# Altium schematic symbol library Resistor.SchLib: 60 symbols (part 1 of 2)
Pins are listed as number, name and electrical type; pins without a type are passive.

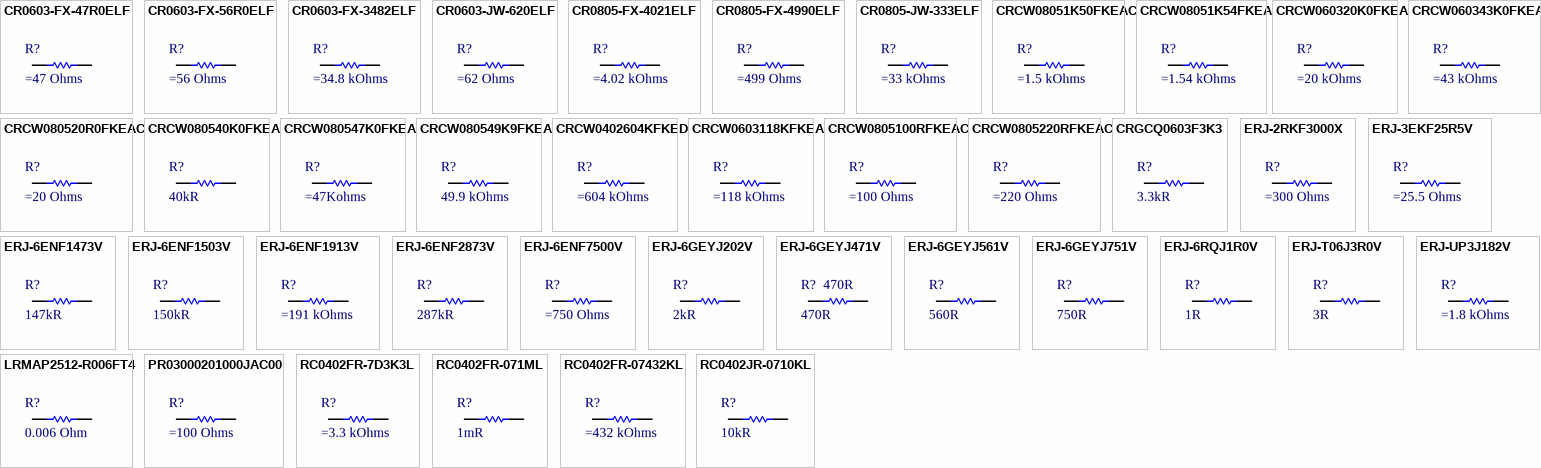
[diagram p0: symbols CR0603-FX-47R0ELF to RC0402JR-0710KL]

## CR0603-FX-47R0ELF
designator R?
RES SMD 47 OHM 1% 1/10W 0603; Manufacturer: Bourns; Part Number: CR0603-FX-47R0ELF; Value: 47 Ohms; Temperature Coefficient: 100 PPM / C; Voltage Rating: 50 V; Supplier 1: Mouser; Category: Thick Film Resistors; Price: 1 = 0.1; 10 = 0.019; 100 = 0.008; 500 = 0.007; 1000 = 0.004; 5000 = 0.002 (USD); Package / Case: 0603; Operating Temperature: - 55 C/ + 155 C; Tolerance: 1 %; Power Rating: 1/10 W; Mouser Link: https://br.mouser.com/ProductDetail/Bourns/CR0603-FX-47R0ELF?qs=0nF2VnfAjXlzDgnPATTkTA%3D%3D; Library Ref: Resistores; Datasheet: https://br.mouser.com/datasheet/2/54/crxxxxx-1858361.pdf; Resistor Type: Thick Film; Size / Dimension: 1.6/0.8 (mm); Supplier Part Number 1: 652-CR0603FX-47R0ELF
pins: 1, 2

## CR0603-FX-56R0ELF
designator R?
RES SMD 56 OHMS 1% 1/10W 0603; Manufacturer: Bourns; Part Number: CR0603-FX-56R0ELF; Value: 56 Ohms; Temperature Coefficient: 100 PPM / C; Voltage Rating: 50 V; Supplier 1: Mouser; Category: Thick Film Resistors - SMD; Price: 1 = 0.1; 10 = 0.019; 100 = 0.011; 500 = 0.01; 1000 = 0.006 (USD); Package / Case: 0603; Operating Temperature: - 55 C/ + 155 C; Tolerance: 1 %; Power Rating: 1/10 W; Mouser Link: https://br.mouser.com/ProductDetail/Bourns/CR0603-FX-56R0ELF?qs=0nF2VnfAjXkVwSNglvrNkw%3D%3D; Library Ref: Resistores; Datasheet: https://br.mouser.com/datasheet/2/54/crxxxxx-1858361.pdf; Resistor Type: Fixo; Size / Dimension: 1.6/0.8 (mm); Supplier Part Number 1: 652-CR0603FX-56R0ELF
pins: 1, 2

## CR0603-FX-3482ELF
designator R?
RES SMD 34.8KOHM 1% 1/10W 0603; Manufacturer: Bourns; Part Number: CR0603-FX-3482ELF; Value: 34.8 kOhms; Temperature Coefficient: 100 PPM / C; Voltage Rating: 50 V; Supplier 1: Mouser; Category: Thick Film Resistors - SMD; Price: 1 = 0.1; 10 = 0.016; 100 = 0.009; 500 = 0.008; 1000 = 0.006 (USD); Package / Case: 0603; Operating Temperature: - 55 C/ + 155 C; Tolerance: 1 %; Power Rating: 1/10 W; Mouser Link: https://br.mouser.com/ProductDetail/Bourns/CR0603-FX-3482ELF?qs=CCIlxZRRv7iML3EEjn8ktw==; Library Ref: Resistores; Datasheet: https://br.mouser.com/datasheet/2/54/crxxxxx-1858361.pdf; Resistor Type: Fixo; Size / Dimension: 1.6/0.8 (mm); Supplier Part Number 1: 652-CR0603FX-3482ELF
pins: 1, 2

## CR0603-JW-620ELF
designator R?
RES SMD 62 OHM 5% 1/10W 0603; Manufacturer: Bourns; Part Number: CR0603-JW-620ELF; Value: 62 Ohms; Temperature Coefficient: 200 PPM / C; Voltage Rating: 50 V; Supplier 1: Mouser; Category: Thick Film Resistors - SMD; Price: 1 = 0.1; 10 = 0.014; 100 = 0.009; 500 = 0.006; 1000 = 0.004 (USD); Package / Case: 0603; Operating Temperature: - 55 C/ + 155 C; Tolerance: 5 %; Power Rating: 1/10 W; Mouser Link: https://br.mouser.com/ProductDetail/Bourns/CR0603-JW-620ELF?qs=fr5M0h%252BG8GYj3p8lbTv0Tg==; Library Ref: Resistores; Datasheet: https://br.mouser.com/datasheet/2/54/crxxxxx-1858361.pdf; Resistor Type: Fixo; Size / Dimension: 1.6/0.8 (mm); Supplier Part Number 1: 652-CR0603-JW-620ELF
pins: 1, 2

## CR0805-FX-4021ELF
designator R?
RES SMD 4.02 K OHM 1% 1/8 W 0805; Manufacturer: Bourns; Part Number: CR0805-FX-4021ELF; Value: 4.02 kOhms; Temperature Coefficient: 100 PPM / C; Power Rating: 1/8 W; Voltage Rating: 150 V; Supplier 1: Mouser; Category: Thick Film Resistors - SMD; Price: 1 = 0.1; 10 = 0.024; 100 = 0.014; 500 = 0.011; 1000 = 0.008 (USD); Package / Case: 0805; Operating Temperature: - 55 C/ + 155 C; Tolerance: 1 %; Mouser Link: https://br.mouser.com/ProductDetail/Bourns/CR0805-FX-4021ELF?qs=TYKCbaKwe1DapcPpjJ90lg%3D%3D; Library Ref: Resistores; Datasheet: https://br.mouser.com/datasheet/2/54/crxxxxx-1858361.pdf; Resistor Type: Fixo; Size / Dimension: 2.0/1.2 (mm); Supplier Part Number 1: 652-CR0805FX-4021ELF
pins: 1, 2

## CR0805-FX-4990ELF
designator R?
RES SMD 499 OHM 1% 1/8W 0805; Manufacturer: Bourns; Part Number: CR0805-FX-4990ELF; Value: 499 Ohms; Temperature Coefficient: 100 PPM / C; Voltage Rating: 150 V; Supplier 1: Mouser; Category: Thick Film Resistors - SMD; Price: 1 = 0.1; 10 = 0.024; 100 = 0.014; 500 = 0.011; 1000 = 0.008 (USD); Package / Case: 0805; Operating Temperature: - 55 C/+ 155 C; Tolerance: 1 %; Power Rating: 1/8 W; Mouser Link: https://br.mouser.com/ProductDetail/Bourns/CR0805-FX-4990ELF?qs=sGAEpiMZZMukHu%252BjC5l7YSNvqakVQFVliZhrfH2%252B8mU%3D; Library Ref: Resistores; Datasheet: https://br.mouser.com/datasheet/2/54/crxxxxx-1858361.pdf; Resistor Type: Thick Film; Size / Dimension: 2.0/1.2 (mm); Supplier Part Number 1: 652-CR0805FX-4990ELF; ComponentLink1URL: https://datasheet.ciiva.com/9119/chpreztr-9119621.pdf?src-supplier=Avnet; ComponentLink1Description: https://datasheet.ciiva.com/9119/chpreztr-9119621.pdf?src-supplier=Avnet; ComponentLink2URL: https://datasheet.ciiva.com/18594/chpreztr-18594794.pdf?src-supplier=Digi-Key; ComponentLink2Description: https://datasheet.ciiva.com/18594/chpreztr-18594794.pdf?src-supplier=Digi-Key; ComponentLink3URL: https://datasheet.ciiva.com/18594/chpreztr-18594795.pdf?src-supplier=Digi-Key; ComponentLink3Description: https://datasheet.ciiva.com/18594/chpreztr-18594795.pdf?src-supplier=Digi-Key; ComponentLink4URL: https://datasheet.ciiva.com/18594/chpreztr-18594796.pdf?src-supplier=Digi-Key; ComponentLink4Description: https://datasheet.ciiva.com/18594/chpreztr-18594796.pdf?src-supplier=Digi-Key; ComponentLink5URL: https://datasheet.ciiva.com/5543/chpreztr-5543368.pdf?src-supplier=Mouser; ComponentLink5Description: https://datasheet.ciiva.com/5543/chpreztr-5543368.pdf?src-supplier=Mouser; ComponentLink6URL: https://datasheet.ciiva.com/16927/chpreztr-16927317.pdf?src-supplier=Avnet+Europe; ComponentLink6Description: https://datasheet.ciiva.com/16927/chpreztr-16927317.pdf?src-supplier=Avnet+Europe
pins: 1, 2

## CR0805-JW-333ELF
designator R?
RES SMD 33K OHM 5% 1/8W 0805; Manufacturer: Bourns; Part Number: CR0805-JW-333ELF; Value: 33 kOhms; Temperature Coefficient: 200 PPM / C; Voltage Rating: 150 V; Supplier 1: Mouser; Category: Thick Film Resistors; Price: 1 = 0.1; 10 = 0.023; 100 = 0.013; 500 = 0.01; 1000 = 0.008 (USD); Package / Case: 0805; Operating Temperature: - 55 C/ + 155 C; Tolerance: 5 %; Power Rating: 1/8 W; Mouser Link: https://br.mouser.com/ProductDetail/Bourns/CR0805-JW-333ELF?qs=%252BcBkmVQIZ2Q1P1gcG8tMAQ%3D%3D; Library Ref: Resistores; Datasheet: https://br.mouser.com/datasheet/2/54/crxxxxx-1858361.pdf; Resistor Type: Fixo; Size / Dimension: 2.0/1.2 (mm); Supplier Part Number 1: 652-CR0805JW-333ELF
pins: 1, 2

## CRCW08051K50FKEAC
designator R?
RES SMD 1.5K OHM 1% 1/8W 0805; Manufacturer: Vishay; Part Number: CRCW08051K50FKEAC; Value: 1.5 kOhms; Temperature Coefficient: 100 PPM / C; Voltage Rating: 150 V; Supplier 1: Mouser; Category: Thick Film Resistors - SMD; Price: 1 = 0.1; 10 = 0.059; 100 = 0.024; 1000 = 0.01 (USD); Package / Case: 0805; Operating Temperature: - 55 C/ + 155 C; Tolerance: 1 %; Power Rating: 1/8 W; Mouser Link: https://br.mouser.com/ProductDetail/Vishay-Dale/CRCW08051K50FKEAC?qs=E3Y5ESvWgWMwo6R2oqPQ9Q%3D%3D; Library Ref: Resistores; Datasheet: https://br.mouser.com/datasheet/2/427/crcwce3-1762584.pdf; Resistor Type: Thick Film; Size / Dimension: 2.0/1.2 (mm); Supplier Part Number 1: 71-CRCW08051K50FKEAC
pins: 1, 2

## CRCW08051K54FKEA
designator R?
RES SMD 1.54K OHM 1% 1/8W 0805; Manufacturer: Vishay; Part Number: CRCW08051K54FKEA; Value: 1.54 kOhms; Temperature Coefficient: 100 PPM / C; Voltage Rating: 150 V; Supplier 1: Mouser; Category: Thick Film Resistors - SMD; Price: 1 = 0.1; 10 = 0.051; 100 = 0.022; 1000 = 0.009 (USB); Package / Case: 0805; Operating Temperature: - 55 C/ + 155 C; Tolerance: 1 %; Power Rating: 1/8 W; Mouser Link: https://br.mouser.com/ProductDetail/Vishay-Dale/CRCW08051K54FKEA?qs=1CkV0QOCgMpi10m9FUA8%2Fw%3D%3D; Library Ref: Resistores; Datasheet: https://br.mouser.com/datasheet/2/427/dcrcwe3-1762152.pdf; Resistor Type: Fixo; Size / Dimension: 2.0/1.2 (mm); Supplier Part Number 1: 71-CRCW08051K54FKEA
pins: 1, 2

## CRCW060320K0FKEA
designator R?
RES SMD 20K OHM 1% 1/10W 0603; Manufacturer: Vishay; Part Number: CRCW060320K0FKEA; Value: 20 kOhms; Temperature Coefficient: 100 PPM / C; Voltage Rating: 75 V; Supplier 1: Mouser; Category: Thick Film Resistors - SMD; Price: 1 = 0.1; 10 = 0.031; 100 = 0.013; 1000 = 0.005 (USD); Package / Case: 0603; Operating Temperature: - 55 C/ + 155 C; Tolerance: 1 %; Power Rating: 1/10 W; Mouser Link: https://br.mouser.com/ProductDetail/Vishay-Dale/CRCW060320K0FKEA?qs=QZuYiDxzHajCQLs7n6RwKw%3D%3D; Library Ref: Resistores; Datasheet: https://br.mouser.com/datasheet/2/427/dcrcwe3-1762152.pdf; Resistor Type: Fixo; Size / Dimension: 1.6/0.8 (mm); Supplier Part Number 1: 71-CRCW0603-20K-E3
pins: 1, 2

## CRCW060343K0FKEAC
designator R?
RES SMD 43K OHM 1% 1/10W 0603; Manufacturer: Vishay; Part Number: CRCW060343K0FKEAC; Value: 43 kOhms; Temperature Coefficient: 100 PPM / C; Voltage Rating: 75 V; Supplier 1: Mouser; Category: Thick Film Resistors - SMD; Price: 1 = 0.16; 10 = 0.061; 100 = 0.035; 500 = 0.033; 1000 = 0.024 (USD); Package / Case: 0603; Operating Temperature: - 55 C/ + 155 C; Tolerance: 1 %; Power Rating: 1/10 W; Mouser Link: https://br.mouser.com/ProductDetail/Vishay-Dale/CRCW060343K0FKEAC?qs=E3Y5ESvWgWO%252BJlD7L0HNPQ%3D%3D; Library Ref: Resistores; Datasheet: https://br.mouser.com/datasheet/2/427/crcwce3-1762584.pdf; Resistor Type: Fixo; Size / Dimension: 1.6/0.8 (mm); Supplier Part Number 1: 71-CRCW060343K0FKEAC
pins: 1, 2

## CRCW080520R0FKEAC
designator R?
RES SMD 20 OHM 1% 1/8W 005; Manufacturer: Vishay; Part Number: CRCW080520R0FKEAC; Value: 20 Ohms; Temperature Coefficient: 100 PPM / C; Voltage Rating: 150 V; Supplier 1: Mouser; Category: Thick Film Resistors - SMD; Price: 1 = 0.1; 10 = 0.059; 100 = 0.024; 1000 = 0.01 (USD); Package / Case: 0805; Operating Temperature: - 55 C/ + 155 C; Tolerance: 1 %; Power Rating: 1/8 W; Mouser Link: https://br.mouser.com/ProductDetail/Vishay-Dale/CRCW080520R0FKEAC?qs=E3Y5ESvWgWMLQrkmx3wlWA%3D%3D; Library Ref: Resistores; Datasheet: https://br.mouser.com/datasheet/2/427/crcwce3-1762584.pdf; Resistor Type: Fixo; Size / Dimension: 2.0/1.2 (mm); Supplier Part Number 1: 71-CRCW080520R0FKEAC
pins: 1, 2

## CRCW080540K0FKEA
designator R?, comment 40kR
RES SMD 40K OHM 1% 1/8W 0805; Manufacturer: Vishay / Dale; Part Number: CRCW080540K0FKEA; Temperature Coefficient: 100 PPM / C; Power Rating: 125 mW (1/8 W); Voltage Rating: 150 V; Library Control - Checked Footprint: No; Library Control - Person that did the Last Update Footprint: Dalarme; Supplier 1: Mouser; Category: Thick Film Resistors - SMD; Price: 1=0,10, 10=0,057, 100=0,024 (USD); Package / Case: 0805 (2012 Metric); Operating Temperature: - 55ºC ~ 155ºC; Value: 40kR; Tolerance: 1 %; Mouser Link: https://br.mouser.com/ProductDetail/Vishay-Dale/CRCW080540K0FKEA?qs=%2Fha2pyFadui6t5gBae62obH1we%2FwEWYF0IgPJkUjG77TW2yL4eZJ9lty8AWRnjVo; Library Ref: Resistor; Datasheet: https://br.mouser.com/datasheet/2/427/dcrcwe3-1762152.pdf; Resistor Type: Chip Resistor; Size / Dimension: 2 mm L x  1.25 mm W x  0.45 mm H; Supplier Part Number 1: 71-CRCW080540K0FKEA; Library Control - Checked Schematic: No; Library Control - Last Update: 10/06/21 12:00; Library Control - Person that did the Last Update Schematic: Dalarme
pins: 1, 2

## CRCW080547K0FKEA
designator R?
RES SMD 47KOHMS 1% 1/8W 0805; Manufacturer: Vishay; Part Number: CRCW080547K0FKEA; Temperature Coefficient: 100 PPM / C; Voltage Rating: 150 V; Supplier 1: Mouser; Category: Thick Film Resistors - SMD; Price: 1 = 0.1; 10 = 0.057; 100 = 0.024; 1000 = 0.009 (USD); Package / Case: 0805; Operating Temperature: - 55 C /+ 155 C; Value: 47 kOhms; Tolerance: 1 %; Power Rating: 1/8 W; Mouser Link: https://br.mouser.com/ProductDetail/Vishay-Dale/CRCW080547K0FKEA?qs=sGAEpiMZZMu61qfTUdNhG2DpbjADlD3GmUgUonkEHPY%3D; Library Ref: Resistores; Datasheet: https://br.mouser.com/datasheet/2/427/dcrcwe3-1762152.pdf; Resistor Type: Thick Film; Size / Dimension: 2.0/1.2 (mm); Supplier Part Number 1: 71-CRCW0805-47K-E3; ComponentLink1URL: https://datasheet.ciiva.com/11809/0900766b80d98b26-11809181.pdf?src-supplier=RSComponents; ComponentLink1Description: https://datasheet.ciiva.com/11809/0900766b80d98b26-11809181.pdf?src-supplier=RSComponents; ComponentLink2URL: https://datasheet.ciiva.com/9006/dcrcwe3-9006477.pdf?src-supplier=Avnet; ComponentLink2Description: https://datasheet.ciiva.com/9006/dcrcwe3-9006477.pdf?src-supplier=Avnet; ComponentLink3URL: https://datasheet.ciiva.com/2514/dcrcwe3-2514311.pdf?src-supplier=Digi-Key; ComponentLink3Description: https://datasheet.ciiva.com/2514/dcrcwe3-2514311.pdf?src-supplier=Digi-Key; ComponentLink4URL: https://datasheet.ciiva.com/2514/dcrcwe3-2514312.pdf?src-supplier=Digi-Key; ComponentLink4Description: https://datasheet.ciiva.com/2514/dcrcwe3-2514312.pdf?src-supplier=Digi-Key; ComponentLink5URL: https://datasheet.ciiva.com/26314/fld-crcw-e3-data-en-26314584.pdf?src-supplier=Distrelec; ComponentLink5Description: https://datasheet.ciiva.com/26314/fld-crcw-e3-data-en-26314584.pdf?src-supplier=Distrelec; ComponentLink6URL: https://datasheet.ciiva.com/16204/dcrcwe3-16204264.pdf?src-supplier=Future+Electronics; ComponentLink6Description: https://datasheet.ciiva.com/16204/dcrcwe3-16204264.pdf?src-supplier=Future+Electronics; ComponentLink7URL: https://datasheet.ciiva.com/16723/70201119-16723909.pdf?src-supplier=Allied+Electronics; ComponentLink7Description: https://datasheet.ciiva.com/16723/70201119-16723909.pdf?src-supplier=Allied+Electronics; ComponentLink8URL: https://datasheet.ciiva.com/7777/1697337-7777406.pdf?src-supplier=Element14; ComponentLink8Description: https://datasheet.ciiva.com/7777/1697337-7777406.pdf?src-supplier=Element14; ComponentLink9URL: https://datasheet.ciiva.com/7777/1720486-7777577.pdf?src-supplier=Element14; ComponentLink9Description: https://datasheet.ciiva.com/7777/1720486-7777577.pdf?src-supplier=Element14; ComponentLink10URL: https://datasheet.ciiva.com/17178/dcrcwe3-17178445.pdf?src-supplier=Avnet+Europe; ComponentLink10Description: https://datasheet.ciiva.com/17178/dcrcwe3-17178445.pdf?src-supplier=Avnet+Europe
pins: 1, 2

## CRCW080549K9FKEA
designator R?, comment 49.9 kOhms
RES SMD 49.9K OHM 1% 1/8W 0805; Manufacturer: Vishay; Part Number: CRCW080549K9FKEA; Temperature Coefficient: 100 PPM / C; Voltage Rating: 150 V; Supplier 1: Mouser; Category: Thick Film Resistors - SMD; Price: 1 = 0.1; 10 = 0.057; 100 = 0.024; 1000 = 0.009 (USD); Package / Case: 0805; Operating Temperature: - 55 C/ + 155 C; Value: 49.9 kOhms; Tolerance: 1 %; Power Rating: 1/8 W; Mouser Link: https://br.mouser.com/ProductDetail/Vishay-Dale/CRCW080549K9FKEA?qs=kkyyugUlSrM78XYIvV9NZQ%3D%3D; Library Ref: Resistores; Datasheet: https://br.mouser.com/datasheet/2/427/dcrcwe3-1762152.pdf; Resistor Type: Fixo; Size / Dimension: 2.0/0.8 (mm); Supplier Part Number 1: 71-CRCW0805-49.9K-E3
pins: 1, 2

## CRCW0402604KFKED
designator R?
RES SMD 604K OHM 1% 1/16W 0402; Manufacturer: Vishay; Part Number: CRCW0402604KFKED; Value: 604 kOhms; Temperature Coefficient: 100 PPM / C; Voltage Rating: 50 V; Supplier 1: Mouser; Category: Thick Film Resistors - SMD; Price: 1 = 0.1; 10 = 0.033; 100 = 0.014; 1000 = 0.006 (USD); Package / Case: 0402; Operating Temperature: - 55 C/ + 155 C; Tolerance: 1 %; Power Rating: 1/16 W; Mouser Link: https://br.mouser.com/ProductDetail/Vishay-Dale/CRCW0402604KFKED?qs=DKbL89i6OEpzv5ZGRZfINw%3D%3D; Library Ref: Resistores; Datasheet: https://br.mouser.com/datasheet/2/427/dcrcwe3-1762152.pdf; Resistor Type: Fixo; Size / Dimension: 1.0/0.5 (mm); Supplier Part Number 1: 71-CRCW0402-604K-E3
pins: 1, 2

## CRCW0603118KFKEA
designator R?
RES SMD 118K OHM 1% 1/10W 0603; Manufacturer: Vishay; Part Number: CRCW0603118KFKEA; Value: 118 kOhms; Temperature Coefficient: 100 PPM / C; Voltage Rating: 75 V; Supplier 1: Mouser; Category: Thick Film Resistors - SMD; Price: 1 = 0.1; 10 = 0.031; 100 = 0.013; 1000 = 0.007 (USD); Package / Case: 0603; Operating Temperature: - 55 C/ + 155 C; Tolerance: 1 %; Power Rating: 1/10 W; Mouser Link: https://br.mouser.com/ProductDetail/Vishay-Dale/CRCW0603118KFKEA/?qs=nXJh77ZNlsm3NRUJdWnJqw%3D%3D; Library Ref: Resistores; Datasheet: https://br.mouser.com/datasheet/2/427/dcrcwe3-1762152.pdf; Resistor Type: Fixo; Size / Dimension: 1.6/0.8 (mm); Supplier Part Number 1: 71-CRCW0603-118K-E3
pins: 1, 2

## CRCW0805100RFKEAC
designator R?
RES SMD 100 OHM 1% 1/8W 0805; Manufacturer: Vishay; Part Number: CRCW0805100RFKEAC; Value: 100 Ohms; Temperature Coefficient: 100 PPM / C; Voltage Rating: 150 V; Supplier 1: Mouser; Category: Thick Film Resistors; Price: 1 = 0.1; 10 = 0.059; 100 = 0.024; 1000 = 0.01 (USD); Package / Case: 0805; Operating Temperature: - 55 C /+ 155 C; Tolerance: 1 %; Power Rating: 1/8 W; Mouser Link: https://br.mouser.com/ProductDetail/Vishay-Dale/CRCW0805100RFKEAC?qs=E3Y5ESvWgWM6LN%2Fsc41QGg%3D%3D; Library Ref: Resistores; Datasheet: https://br.mouser.com/datasheet/2/427/crcwce3-1762584.pdf; Resistor Type: Thick Film; Size / Dimension: 2.0/1.2 (mm); Supplier Part Number 1: 71-CRCW0805100RFKEAC; ComponentLink1URL: http://www.vishay.com/docs/28773/crcwce3.pdf?src-supplier=Digi-Key; ComponentLink1Description: http://www.vishay.com/docs/28773/crcwce3.pdf?src-supplier=Digi-Key; ComponentLink2URL: http://www.vishay.com/docs/20035/dcrcwe3.pdf?src-supplier=Avnet+Asia; ComponentLink2Description: http://www.vishay.com/docs/20035/dcrcwe3.pdf?src-supplier=Avnet+Asia
pins: 1, 2

## CRCW0805220RFKEAC
designator R?
RES SMD 220 OHM 1% 1/10W 0603; Manufacturer: Vishay; Part Number: CRCW0805220RFKEAC; Value: 220 Ohms; Temperature Coefficient: 100 PPM / C; Power Rating: 1/8 W; Voltage Rating: 150 V; Supplier 1: Mouser; Category: Thick Film Resistors - SMD; Price: 1 = 0.1; 10 = 0.059; 100 = 0.024; 1000 = 0.01 (USD); Package / Case: 0805; Operating Temperature: - 55 C/ + 155 C; Tolerance: 1 %; Mouser Link: https://br.mouser.com/ProductDetail/Vishay-Dale/CRCW0805220RFKEAC?qs=%2Fha2pyFadui6t5gBae62oVC8Jw3KURWiTijmJtzJ%2FwZHA3XMX06wmwYXzj5PSsTm; Library Ref: Resistores; Datasheet: https://br.mouser.com/datasheet/2/427/crcwce3-1762584.pdf; Resistor Type: Thick Film; Size / Dimension: 2.0/1.2 (mm); Supplier Part Number 1: 71-CRCW0805220RFKEAC
pins: 1, 2

## CRGCQ0603F3K3
designator R?, comment 3.3kR
RES SMD 3.3K OHM 1% 1/10W 0603; Manufacturer: TE Connectivity / Holsworthy; Part Number: CRGCQ0603F3K3; Temperature Coefficient: 100 PPM / C; Power Rating: 100 mW (1/10 W); Voltage Rating: 75 V; Library Control - Checked Footprint: No; Library Control - Person that did the Last Update Footprint: Dalarme; Supplier 1: Mouser; Category: Thick Film Resistors; Price: 1=0,10, 10=0,029, 100=0,011 (USD); Package / Case: 0603 (1608 Metric); Operating Temperature: - 55ºC ~ 125ºC; Value: 3.3kR; Tolerance: 1 %; Mouser Link: https://br.mouser.com/ProductDetail/TE-Connectivity-Holsworthy/CRGCQ0603F3K3?qs=sGAEpiMZZMvdGkrng054t7z4BkURc4Lz7mzhBruKq8fwVJ16OlxZFQ%3D%3D; Library Ref: Resistor; Datasheet: https://br.mouser.com/datasheet/2/418/4/NG_DS_1773204-3_1-1358553.pdf; Resistor Type: Thick Film Resistors; Size / Dimension: 1.6 mm L x  0.8 mm W x  0.45 mm H; Supplier Part Number 1: 279-CRGCQ0603F3K3; Library Control - Checked Schematic: No; Library Control - Last Update: 10/06/21 12:00; Library Control - Person that did the Last Update Schematic: Dalarme
pins: 1, 2

## ERJ-2RKF3000X
designator R?
RES SMD 300 OHM 1% 1/10W 0402; Manufacturer: Panasonic; Part Number: ERJ-2RKF3000X; Value: 300 Ohms; Temperature Coefficient: 100 PPM / C; Voltage Rating: 50 V; Supplier 1: Mouser; Category: Thick Film Resistors - SMD; Price: 1 = 0.1; 10 = 0.022; 100 = 0.09; 1000 = 0.005; 2500 = 0.003 (USD); Package / Case: 0402; Operating Temperature: - 55 C/ + 155 C; Tolerance: 1 %; Power Rating: 1/10 W; Mouser Link: https://br.mouser.com/ProductDetail/Panasonic/ERJ-2RKF3000X?qs=YMBIwoNQYdXXslVZpfxx%2Fw%3D%3D; Library Ref: Resistores; Datasheet: https://br.mouser.com/datasheet/2/315/AOA0000C304-1149620.pdf; Resistor Type: Thick Film Resistors; Size / Dimension: 1.0/0.5 (mm); Supplier Part Number 1: 667-ERJ-2RKF3000X
pins: 1, 2

## ERJ-3EKF25R5V
designator R?
RES SMD 25.5 OHM 1% 1/10W 0603; Manufacturer: Panasonic; Part Number: ERJ-3EKF25R5V; Value: 25.5 Ohms; Temperature Coefficient: 100 PPM / C; Voltage Rating: 75 V; Supplier 1: Mouser; Category: Thick Film Resistors - SMD; Price: 1 = 0.1; 10 = 0.032; 100 = 0.013; 1000 = 0.005 (USD); Package / Case: 0603; Operating Temperature: - 55 C/ + 155 C; Tolerance: 1 %; Power Rating: 1/10 W; Mouser Link: https://br.mouser.com/ProductDetail/Panasonic/ERJ-3EKF25R5V?qs=iBwFsHVUAOfMQYWcKXnGtA%3D%3D; Library Ref: Resistores; Datasheet: https://br.mouser.com/datasheet/2/315/AOA0000C304-1149620.pdf; Resistor Type: Fixo; Size / Dimension: 1.6/0.8 (mm); Supplier Part Number 1: 667-ERJ-3EKF25R5V
pins: 1, 2

## ERJ-6ENF1473V
designator R?, comment 147kR
RES SMD 147K OHM 1% 1/8W 0805; Manufacturer: ERJ-6ENF1473V; Part Number: Panasonic; Temperature Coefficient: 100 PPM / C; Power Rating: 125 mW (1/8 W); Voltage Rating: 150 V; Library Control - Checked Footprint: No; Library Control - Person that did the Last Update Footprint: Dalarme; Supplier 1: Mouser; Category: Thick Film Resistors - SMD; Price: 1=0,10, 10=0,081, 100=0,031 (USD); Package / Case: 0805 (2012 Metric); Operating Temperature: - 55ºC ~ 155ºC; Value: 147kR; Tolerance: 1 %; Mouser Link: https://www.mouser.com/ProductDetail/Panasonic/ERJ-6ENF1473V?qs=%2Fha2pyFadujWqMGonbcVXWwXMYaIuq5GHKqLFAIP2xNGjmqSEc%252BekQ%3D%3D; Library Ref: Resistor; Datasheet: https://www.mouser.com/datasheet/2/315/AOA0000C304-1149620.pdf; Resistor Type: Thick Film Resistors SMD; Size / Dimension: 2 mm L x  1.25 mm W x  0.6 mm H; Supplier Part Number 1: 667-ERJ-6ENF1473V; Library Control - Checked Schematic: No; Library Control - Last Update: 10/06/21 12:00; Library Control - Person that did the Last Update Schematic: Dalarme
pins: 1, 2

## ERJ-6ENF1503V
designator R?, comment 150kR
RES SMD 150K OHM 1% 1/8W 0805; Manufacturer: Panasonic; Part Number: ERJ-6ENF1503V; Temperature Coefficient: 100 PPM / C; Power Rating: 125 mW (1/8 W); Voltage Rating: 150 V; Library Control - Checked Footprint: No; Library Control - Person that did the Last Update Footprint: Dalarme; Supplier 1: Mouser; Category: Thick Film Resistors - SMD; Price: 1=0,10, 10=0,072, 100=0,028 (USD); Package / Case: 0805 (2012 Metric); Operating Temperature: - 55ºC ~ 155ºC; Value: 150kR; Tolerance: 1 %; Mouser Link: https://www.mouser.com/ProductDetail/Panasonic/ERJ-6ENF1503V?qs=%2Fha2pyFadujWqMGonbcVXZ4ilSYTCtvzmps6OSFpSb8bGFothQhspw%3D%3D; Library Ref: Resistor; Datasheet: https://www.mouser.com/datasheet/2/315/AOA0000C304-1149620.pdf; Resistor Type: Thick Film Resistors; Size / Dimension: 2 mm L x  1.2 mm W x  0.6 mm H; Supplier Part Number 1: 667-ERJ-6ENF1503V; Library Control - Checked Schematic: No; Library Control - Last Update: 10/06/21 12:00; Library Control - Person that did the Last Update Schematic: Dalarme
pins: 1, 2

## ERJ-6ENF1913V
designator R?
RES SMD 191K OHM 1% 1/8W 0805; Manufacturer: Panasonic; Part Number: ERJ-6ENF1913V; Value: 191 kOhms; Temperature Coefficient: 100 PPM / C; Voltage Rating: 150 V; Supplier 1: Mouser; Category: Thick Film Resistors - SMD; Price: 1 = 0.1; 10 = 0.081; 100 = 0.031; 1000 = 0.011 (USD); Package / Case: 0805; Operating Temperature: - 55 C/ + 155 C; Tolerance: 1 %; Power Rating: 1/8 W; Mouser Link: https://br.mouser.com/ProductDetail/Panasonic/ERJ-6ENF1913V?qs=JjxTDIFmKPT26nwOK%2FF6sA%3D%3D; Library Ref: Resistores; Datasheet: https://br.mouser.com/datasheet/2/315/AOA0000C304-1149620.pdf; Resistor Type: Fixo; Size / Dimension: 2.0/1.2 (mm); Supplier Part Number 1: 667-ERJ-6ENF1913V
pins: 1, 2

## ERJ-6ENF2873V
designator R?, comment 287kR
RES SMD 287K OHM 1% 1/8W 0805; Manufacturer: Panasonic; Part Number: ERJ-6ENF2873V; Temperature Coefficient: 100 PPM / C; Power Rating: 125 mW (1/8 W); Voltage Rating: 150 V; Library Control - Checked Footprint: No; Library Control - Person that did the Last Update Footprint: Dalarme; Supplier 1: Mouser; Category: Thick Film Resistors - SMD; Price: 1=0,10, 10=0,081, 100=0,031 (USD); Package / Case: 0805 (2012 Metric); Operating Temperature: - 55ºC ~ 155ºC; Value: 287kR; Tolerance: 1 %; Mouser Link: https://www.mouser.com/ProductDetail/Panasonic/ERJ-6ENF2873V?qs=%2Fha2pyFadujWqMGonbcVXXc0zZsdSP1dZYYcRXEsXZFr4GNb89oOKQ%3D%3D; Library Ref: Resistor; Datasheet: https://www.mouser.com/datasheet/2/315/AOA0000C304-1149620.pdf; Resistor Type: Thick Film Resistors; Size / Dimension: 2 mm L x  1.2 mm W x  0.6 mm H; Supplier Part Number 1: 667-ERJ-6ENF2873V; Library Control - Checked Schematic: No; Library Control - Last Update: 10/06/21 12:00; Library Control - Person that did the Last Update Schematic: Dalarme
pins: 1, 2

## ERJ-6ENF7500V
designator R?
RES SMD 750 OHM 1% 1/8W 0805; Manufacturer: Panasonic; Part Number: ERJ-6ENF7500V; Value: 750 Ohms; Temperature Coefficient: 100 PPM / C; Voltage Rating: 150 V; Supplier 1: Mouser; Category: Thick Film Resistors - SMD; Price: 1 = 0.11; 10 = 0.061; 100 = 0.031; 1000 = 0.013 (mm); Package / Case: 0805; Operating Temperature: - 55 C/ + 155 C; Tolerance: 1 %; Power Rating: 1/8 W; Mouser Link: https://br.mouser.com/ProductDetail/Panasonic/ERJ-6ENF7500V?qs=8%252BG0TiN%2FgVpxq6ZxI%2FoLGg%3D%3D; Library Ref: Resistores; Datasheet: https://br.mouser.com/datasheet/2/315/AOA0000C304-1149620.pdf; Resistor Type: Fixo; Size / Dimension: 2.0/1.2 (mm); Supplier Part Number 1: 667-ERJ-6ENF7500V
pins: 1, 2

## ERJ-6GEYJ202V
designator R?, comment 2kR
RES SMD 2K OHM 5% 1/8W 0805; Manufacturer: Panasonic; Part Number: ERJ-6GEYJ202V; Temperature Coefficient: 200 PPM / C; Power Rating: 125 mW (1/8 W); Voltage Rating: 150 V; Library Control - Checked Footprint: No; Library Control - Person that did the Last Update Footprint: Dalarme; Supplier 1: Mouser; Category: Thick Film Resistors - SMD; Price: 1=0,10, 10=0,043, 100=0,02 (USD); Package / Case: 0805 (2012 Metric); Operating Temperature: - 55ºC ~ 155ºC; Value: 2kR; Tolerance: 5 %; Mouser Link: https://www.mouser.com/ProductDetail/Panasonic/ERJ-6GEYJ202V?qs=tQNqqtTOejIIQ7OKxiM92w%3D%3D; Library Ref: Resistor; Datasheet: https://www.mouser.com/datasheet/2/315/AOA0000C301-1488782.pdf; Resistor Type: Thick Film Resistors SMD; Size / Dimension: 2 mm L x  1.25 mm W x  0.6 mm H; Supplier Part Number 1: 667-ERJ-6GEYJ202V; Library Control - Checked Schematic: No; Library Control - Last Update: 10/06/21 12:00; Library Control - Person that did the Last Update Schematic: Dalarme
pins: 1, 2

## ERJ-6GEYJ471V
designator R?, comment 470R
RES SMD 470 OHM 5% 1/8W 0805; Manufacturer: Panasonic; Part Number: 667-ERJ-6GEYJ471V; Temperature Coefficient: 200 PPM / C; Power Rating: 125 mW (1/8 W); Voltage Rating: 150 V; Library Control - Checked Footprint: No; Library Control - Person that did the Last Update Footprint: Dalarme; Supplier 1: Mouser; Category: Thick Film Resistors - SMD; Price: 1=0,1000, 10=0,04300, 100=0,02000 (USD); Package / Case: 0805 (2012 Metric); Operating Temperature: - 55ºC ~ 155ºC; Tolerance: 5 %; Mouser Link: https://br.mouser.com/ProductDetail/Panasonic/ERJ-6GEYJ471V?qs=%2Fha2pyFadujWqMGonbcVXQOcxwQBA8OuqUzw3XmrY6vv5LW7wYDrug%3D%3D; Library Ref: Resistor; Datasheet: https://br.mouser.com/datasheet/2/315/AOA0000C301-1488782.pdf; Resistor Type: Thick Film Resistors SMD; Size / Dimension: 2 mm L x  1.25 mm W x  0.6 mm H; Supplier Part Number 1: 667-ERJ-6GEYJ471V; Library Control - Checked Schematic: No; Library Control - Last Update: 10/06/21 12:00; Library Control - Person that did the Last Update Schematic: Dalarme; Value: 470R
pins: 1, 2

## ERJ-6GEYJ561V
designator R?, comment 560R
RES SMD 560 OHM 5% 1/8W 0805; Manufacturer: Panasonic; Part Number: ERJ-6GEYJ561V; Temperature Coefficient: 200 PPM / C; Power Rating: 125 mW (1/8 W); Voltage Rating: 150 V; Library Control - Checked Footprint: No; Library Control - Person that did the Last Update Footprint: Dalarme; Supplier 1: Mouser; Category: Thick Film Resistors - SMD; Price: 1=0,1000, 10=0,0570, 100=0,0240 (USD); Package / Case: 0805 (2012 Metric); Operating Temperature: - 55 ºC ~ 155 ºC; Value: 560R; Tolerance: 5 %; Mouser Link: https://br.mouser.com/ProductDetail/Panasonic/ERJ-6GEYJ561V?qs=%2Fha2pyFadujWqMGonbcVXVSDhMt8ErmxgLQZ2885LZcMb7gQ7yYKdA%3D%3D; Library Ref: Resistor; Datasheet: https://br.mouser.com/datasheet/2/315/AOA0000C301-1488782.pdf; Resistor Type: Thick Film Resistors SMD; Size / Dimension: 2 mm L x  1.25 mm W x  0.6 mm H; Supplier Part Number 1: 667-ERJ-6GEYJ561V; Library Control - Checked Schematic: No; Library Control - Last Update: 10/06/21 12:00; Library Control - Person that did the Last Update Schematic: Dalarme
pins: 1, 2

## ERJ-6GEYJ751V
designator R?, comment 750R
RES SMD 750 OHM 5% 1/8W 0805; Manufacturer: Panasonic; Part Number: ERJ-6GEYJ751V; Temperature Coefficient: 200 PPM / C; Power Rating: 125 mW (1/8 W); Voltage Rating: 150 V; Library Control - Checked Footprint: No; Library Control - Person that did the Last Update Footprint: Dalarme; Supplier 1: Mouser; Category: Thick Film Resistors - SMD; Price: 1=0,10, 10=0,049, 100=0,021 (USD); Package / Case: 0805 (2012 Metric); Operating Temperature: - 55ºC ~ 155ºC; Value: 750R; Tolerance: 5 %; Mouser Link: https://br.mouser.com/ProductDetail/Panasonic/ERJ-6GEYJ751V?qs=sGAEpiMZZMukHu%252BjC5l7YYjpZ9X9PhOCxoCk8Svj5Vk%3D; Library Ref: Resistor; Datasheet: https://br.mouser.com/datasheet/2/315/AOA0000C301-1488782.pdf; Resistor Type: Thick Film Resistors; Size / Dimension: 2 mm L x  1.25 mm W x  0.6 mm H; Supplier Part Number 1: 667-ERJ-6GEYJ751V; Library Control - Checked Schematic: No; Library Control - Last Update: 10/06/21 12:00; Library Control - Person that did the Last Update Schematic: Dalarme
pins: 1, 2

## ERJ-6RQJ1R0V
designator R?, comment 1R
RES SMD 1 OHM 5% 1/8W 0805; Manufacturer: Panasonic; Part Number: ERJ-6RQJ1R0V; Temperature Coefficient: 200 PPM / C; Power Rating: 125 mW (1/8 W); Voltage Rating: 11 V; Library Control - Checked Footprint: No; Library Control - Person that did the Last Update Footprint: Dalarme; Supplier 1: Mouser; Category: Current Sense Resistors - SMD; Price: 1=0,4400, 10=0,17700, 100=0,0880 (USD); Package / Case: 0805 (2012 Metric); Operating Temperature: - 55ºC ~ 125ºC; Value: 1R; Tolerance: 5 %; Mouser Link: https://br.mouser.com/ProductDetail/Panasonic/ERJ-6RQJ1R0V?qs=%2Fha2pyFadujWqMGonbcVXYgrT3JhghtAWM5KVP2vsx%252BYqIFZaqt%2Fzw%3D%3D; Library Ref: Resistor; Datasheet: https://br.mouser.com/datasheet/2/315/AOA0000C313-1141758.pdf; Resistor Type: Current Sense Resistors; Size / Dimension: 2 mm L x  1.2 mm W x  0.6 mm H; Supplier Part Number 1: 667-ERJ-6RQJ1R0V; Library Control - Checked Schematic: No; Library Control - Last Update: 10/06/21 12:00; Library Control - Person that did the Last Update Schematic: Dalarme
pins: 1, 2

## ERJ-T06J3R0V
designator R?, comment 3R
RES SMD 3 OHM 5% 1/4W 0805; Manufacturer: Panasonic; Part Number: ERJ-T06J3R0V; Temperature Coefficient: - 100 PPM / C, + 600 PPM / C; Power Rating: 250 mW (1/4 W); Voltage Rating: 150 V; Library Control - Checked Footprint: No; Library Control - Person that did the Last Update Footprint: Dalarme; Supplier 1: Mouser; Category: Thick Film Resistors - SMD; Price: 1=0,32000, 25=0,13200, 100=0,05500 (USD); Package / Case: 0805 (2012 Metric); Operating Temperature: - 55ºC ~ 155ºC; Value: 3R; Tolerance: 5 %; Mouser Link: https://br.mouser.com/ProductDetail/Panasonic/ERJ-T06J3R0V?qs=iIVTEDlrHA1yFM81e%252BgKUQ==; Library Ref: Resistor; Datasheet: https://br.mouser.com/datasheet/2/315/powerR_erjt_e-1077525.pdf; Resistor Type: Anti-Pulse Resistor; Size / Dimension: 2 mm L x  1.2 mm W x  0.6 mm H; Supplier Part Number 1: 667-ERJ-T06J3R0V; Library Control - Checked Schematic: No; Library Control - Last Update: 10/06/21 12:00; Library Control - Person that did the Last Update Schematic: Dalarme
pins: 1, 2

## ERJ-UP3J182V
designator R?
RES SMD 1.8K OHM 5% 1/4W 0603; Manufacturer: Panasonic; Part Number: ERJ-UP3J182V; Value: 1.8 kOhms; Temperature Coefficient: 100 PPM / C; Voltage Rating: 150 V; Supplier 1: Mouser; Category: Thick Film Resistors - SMD; Price: 1 = 0.18; 10 = 0.15; 100 = 0.058; 1000 = 0.035 (USD); Package / Case: 0603; Operating Temperature: - 55 C/ + 155 C; Tolerance: 5 %; Power Rating: 1/4 W; Mouser Link: https://br.mouser.com/ProductDetail/Panasonic/ERJ-UP3J182V?qs=GedFDFLaBXEdz0KjUYQ0%2FQ%3D%3D; Library Ref: Resistor; Datasheet: https://br.mouser.com/datasheet/2/315/Panasonic_Resistors_Thick_Film_Anti_Sulf_Anti_Surg-1825099.pdf; Resistor Type: Fixo; Size / Dimension: 1.6/0.8 (mm); Supplier Part Number 1: 667-ERJ-UP3J182V
pins: 1, 2

## LRMAP2512-R006FT4
designator R?, comment 0.006 Ohm
RES SMD 0.006 OHM 1% 3W 2512; Manufacturer: TT Electronics; Part Number: LRMAP2512-R006FT4; Temperature Coefficient: 50 PPM / C; Supplier 1: Mouser; Category: Current Sense Resistors - SMD; Price: 1 = 0.56; 25 = 0.403; 100 = 0.331; 250 = 0.288; 500 = 0.235; 1000 = 0.185 (USD); Package / Case: 2512; Operating Temperature: - 55 C/ + 170 C; Value: 0.006 Ohm; Tolerance: 1%; Power Rating: 3 W; Mouser Link: https://br.mouser.com/ProductDetail/Welwyn-Components-TT-Electronics/LRMAP2512-R006FT4?qs=GbEj%2Fc2lfnfWcu9yMDcoiQ%3D%3D; Library Ref: Resistores; Datasheet: https://br.mouser.com/datasheet/2/414/LRMA-1528276.pdf; Resistor Type: Fixo; Size / Dimension: 6.4/3.2 (mm); Supplier Part Number 1: 756-LRMAP2512R006FT4
pins: 1, 2

## PR03000201000JAC00
designator R?
RES THROUGH HOLE 100 OHM 5% 3W; Manufacturer: Vishay; Part Number: PR03000201000JAC00; Value: 100 Ohms; Temperature Coefficient: 250 PPM / C; Voltage Rating: 750 V; Supplier 1: Mouser; Category: Metal Film Resistors - Through Hole; Price: 1 = 0.48; 100 = 0.26; 500 = 0.145; 1000 = 0.111 (USD); Package / Case: Ammo Pack; Operating Temperature: - 55 C/ + 155 C; Tolerance: 5 %; Power Rating: 3 W; Mouser Link: https://br.mouser.com/ProductDetail/Vishay-BC-Components/PR03000201000JAC00/?qs=HbLW8Yl3MFzoQdcSX5YM3A%3D%3D; Library Ref: Resistores; Datasheet: https://br.mouser.com/datasheet/2/427/pr010203-1762580.pdf; Resistor Type: Power Metal Film Leaded Resistors; Size / Dimension: 5.2/16.7/19.5 (mm); Supplier Part Number 1: 594-5093NW100R0J
pins: 1, 2

## RC0402FR-7D3K3L
designator R?
RES SMD 3.3K OHM 1% 1/16W 0402; Manufacturer: Yageo; Part Number: RC0402FR-7D3K3L; Value: 3.3 kOhms; Temperature Coefficient: 100 PPM / C; Voltage Rating: 50 V; Supplier 1: Mouser; Category: Thick Film Resistors - SMD; Price: 1 = 0.1; 10 = 0.012; 100 = 0.004; 1000 = 0.003 (USD); Package / Case: 0402; Operating Temperature: - 55 C/ + 155 C; Tolerance: 1 %; Power Rating: 1/16 W; Mouser Link: https://br.mouser.com/ProductDetail/Yageo/RC0402FR-7D3K3L?qs=F5EMLAvA7IAfc9MDqhvj6Q%3D%3D; Library Ref: Resistores; Datasheet: https://br.mouser.com/datasheet/2/447/PYu_RC_Group_51_RoHS_L_10-1664068.pdf; Resistor Type: Fixo; Size / Dimension: 1.0/0.5 (mm); Supplier Part Number 1: 603-RC0402FR-7D3K3L
pins: 1, 2

## RC0402FR-071ML
designator R?, comment 1mR
RES SMD 1M OHM 1% 1/16W 0402; Manufacturer: Yageo; Part Number: RC0402FR-071ML; Temperature Coefficient: 100 PPM / C; Power Rating: 62.5 mW (1/16 W); Voltage Rating: 50 V; Library Control - Checked Footprint: No; Library Control - Person that did the Last Update Footprint: Dalarme; Supplier 1: Mouser; Category: Thick Film Resistors - SMD; Price: 1=0,10, 10=0,012, 100=0,004 (USD); Package / Case: 0402 (1005 Metric); Operating Temperature: - 55ºC ~ 155ºC; Value: 1mR; Tolerance: 1 %; Mouser Link: https://br.mouser.com/ProductDetail/Yageo/RC0402FR-071ML?qs=%2Fha2pyFadugksLQP8sr8wZXmL%2F2We%252Bo7V7jdq5tRnxderr6VjPnrkg%3D%3D; Library Ref: Resistor; Datasheet: https://br.mouser.com/datasheet/2/447/PYu_RC_Group_51_RoHS_L_10-1664068.pdf; Resistor Type: Thick Film Resistors; Size / Dimension: 1 mm L x  0.5 mm W x  0.35 mm H; Supplier Part Number 1: 603-RC0402FR-071ML; Library Control - Checked Schematic: No; Library Control - Last Update: 10/06/21 12:00; Library Control - Person that did the Last Update Schematic: Dalarme
pins: 1, 2

## RC0402FR-07432KL
designator R?
RES SMD 432K OHM 1% 1/16W 0402; Manufacturer: Yageo; Part Number: RC0402FR-07432KL; Value: + 155 C; Temperature Coefficient: 100 PPM / C; Voltage Rating: 50 V; Supplier 1: Mouser; Category: Thick Film Resistors - SMD; Price: 1 = 0.1; 10 = 0.012; 100 = 0.004 (USD); Package / Case: 0402; Operating Temperature: - 55 C; Tolerance: 1 %; Power Rating: 1/16 W; Mouser Link: https://br.mouser.com/ProductDetail/Yageo/RC0402FR-07432KL/?qs=%2Fha2pyFadugksLQP8sr8wU6OPm0Wm%2FkmPU7Grv7ugSLy0CqlM7cudYvSmYROs3es; Library Ref: Resistores; Datasheet: https://br.mouser.com/datasheet/2/447/PYu_RC_Group_51_RoHS_L_10-1664068.pdf; Resistor Type: Fixo; Size / Dimension: 1.0/0.5 (mm); Supplier Part Number 1: 603-RC0402FR-07432KL
pins: 1, 2

## RC0402JR-0710KL
designator R?, comment 10kR
RES SMD 10K OHM 5% 1/16W 0402; Manufacturer: Yageo; Part Number: RC0402JR-0710KL; Temperature Coefficient: 100 PPM / C; Power Rating: 62.5 mW (1/16 W); Voltage Rating: 50 V; Library Control - Checked Footprint: No; Library Control - Person that did the Last Update Footprint: Dalarme; Supplier 1: Mouser; Category: Thick Film Resistors - SMD; Price: 1=0,10, 10=0,01, 100=0,004 (USD); Package / Case: 0805 (2012 Metric); Operating Temperature: - 55ºC ~ 155ºC; Value: 10kR; Tolerance: 5 %; Mouser Link: https://br.mouser.com/ProductDetail/Yageo/RC0402JR-0710KL?qs=%2Fha2pyFadugksLQP8sr8wSFqaMq1e9zbbX4dfYXawN%252BqoBT8jIbVcw%3D%3D; Library Ref: Resistor; Datasheet: https://br.mouser.com/datasheet/2/447/PYu_RC_Group_51_RoHS_L_10-1664068.pdf; Resistor Type: Thick Film Resistors; Size / Dimension: 1 mm L x  0.5 mm W x  0.35 mm H; Supplier Part Number 1: 603-RC0402JR-0710KL; Library Control - Checked Schematic: No; Library Control - Last Update: 10/06/21 12:00; Library Control - Person that did the Last Update Schematic: Dalarme
pins: 1, 2

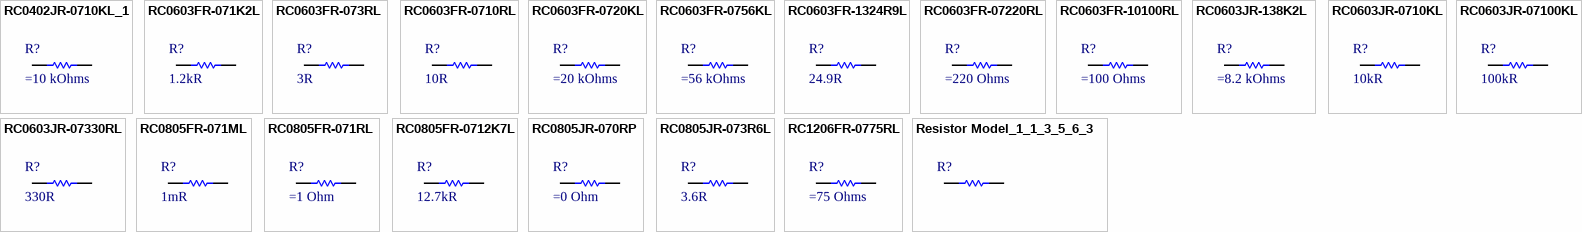
[diagram p1: symbols RC0402JR-0710KL_1 to Resistor Model_1_1_3_5_6_3]

## RC0402JR-0710KL_1
designator R?
RES SMD 10K OHM 5% 1/16W 0402; Manufacturer: Yageo; Part Number: RC0402JR-0710KL; Value: 10 kOhms; Temperature Coefficient: 100 PPM / C; Voltage Rating: 50 V; Supplier 1: Mouser; Category: Thick Film Resistors - SMD; Price: 1 = 0.1; 10 = 0.01; 100 = 0.004; 1000 = 0.003; 2500 = 0.002 (USD); Package / Case: 0402; Operating Temperature: - 55 C/ + 155 C; Tolerance: 5 %; Power Rating: 1/16 W; Mouser Link: https://br.mouser.com/ProductDetail/Yageo/RC0402JR-0710KL?qs=V1yeUXFNrkk4BhFptVo0Rw%3D%3D; Library Ref: Resistores; Datasheet: https://br.mouser.com/datasheet/2/447/PYu_RC_Group_51_RoHS_L_10-1664068.pdf; Resistor Type: Fixo; Size / Dimension: 1.0/0.5 (mm); Supplier Part Number 1: 603-RC0402JR-0710KL
pins: 1, 2

## RC0603FR-071K2L
designator R?, comment 1.2kR
RES SMD 1.2K OHM 1% 1/10W 0603; Manufacturer: Yageo; Part Number: RC0603FR-071K2L; Temperature Coefficient: 100 PPM / C; Power Rating: 100 mW (1/10 W); Voltage Rating: 75 V; Library Control - Checked Footprint: No; Library Control - Person that did the Last Update Footprint: Dalarme; Supplier 1: Mouser; Category: Thick Film Resistors - SMD; Price: 1=0,1000, 10=0,01800, 100=0,00600 (USD); Package / Case: 0603 (1608 Metric); Operating Temperature: - 55ºC ~ 155ºC; Value: 1.2kR; Tolerance: 1 %; Mouser Link: https://br.mouser.com/ProductDetail/Yageo/RC0603FR-071K2L?qs=%2Fha2pyFaduiUxY9aBc7vYj6C2ygH7R2jVo05G3fpX5tbCK4vp0%2Fsww%3D%3D; Library Ref: Resistor; Datasheet: https://br.mouser.com/datasheet/2/447/Yageo_03_18_2021_PYu_RC_Group_51_RoHS_L_11-2199992.pdf; Resistor Type: Thick Film Resistors; Size / Dimension: 1.6 mm L x  0.8 mm W x  0.45 mm H; Supplier Part Number 1: 603-RC0603FR-071K2L; Library Control - Checked Schematic: No; Library Control - Last Update: 10/06/21 12:00; Library Control - Person that did the Last Update Schematic: Dalarme
pins: 1, 2

## RC0603FR-073RL
designator R?, comment 3R
RES SMD 3 OHM 1% 1/10W 0603; Manufacturer: Yageo; Part Number: RC0603FR-073RL; Temperature Coefficient: 200 PPM / C; Power Rating: 100 mW (1/10 W); Voltage Rating: 75 V; Library Control - Checked Footprint: No; Library Control - Person that did the Last Update Footprint: Dalarme; Supplier 1: Mouser; Category: Thick Film Resistors - SMD; Price: 1=0,15, 10=0,036, 100=0,012 (USD); Package / Case: 0603 (1608 Metric); Operating Temperature: - 55ºC ~ 155ºC; Value: 3R; Tolerance: 1 %; Mouser Link: https://br.mouser.com/ProductDetail/Yageo/RC0603FR-073RL?qs=%2Fha2pyFaduiUxY9aBc7vYmnimlMbY96pRvxoLPmTRDKaTRqOY5X3Sw%3D%3D; Library Ref: Resistor; Datasheet: https://br.mouser.com/datasheet/2/447/Yageo_03_18_2021_PYu_RC_Group_51_RoHS_L_11-2199992.pdf; Resistor Type: Thick Film Resistors; Size / Dimension: 1.6 mm L x  0.8 mm W x  0.45 mm H; Supplier Part Number 1: 603-RC0603FR-073RL; Library Control - Checked Schematic: No; Library Control - Last Update: 10/06/21 12:00; Library Control - Person that did the Last Update Schematic: Dalarme
pins: 1, 2

## RC0603FR-0710RL
designator R?, comment 10R
RES SMD 10 OHM 1% 1/10W 0603; Manufacturer: Yageo; Part Number: RC0603FR-0710RL; Temperature Coefficient: 200 PPM / C; Power Rating: 100 mW (1/10 W); Voltage Rating: 75 V; Library Control - Checked Footprint: No; Library Control - Person that did the Last Update Footprint: Dalarme; Supplier 1: Mouser; Category: Thick Film Resistors - SMD; Price: 1=0,1000, 10=0,0360, 100=0,0120 (USD); Package / Case: 0603 (1608 Metric); Operating Temperature: - 55ºC ~ 155ºC; Value: 10R; Tolerance: 1%; Mouser Link: https://br.mouser.com/ProductDetail/Yageo/RC0603FR-0710RL?qs=%2Fha2pyFaduiUxY9aBc7vYj6C2ygH7R2jV%2F5jI5qqF%2F1lF1E5UhUHhA%3D%3D; Library Ref: Resistor; Datasheet: https://br.mouser.com/datasheet/2/447/Yageo_03_18_2021_PYu_RC_Group_51_RoHS_L_11-2199992.pdf; Resistor Type: Thick Film Resistors; Size / Dimension: 1.6 mm L x  0.8 mm W x  0.45 mm H; Supplier Part Number 1: 603-RC0603FR-0710RL; Library Control - Checked Schematic: No; Library Control - Last Update: 10/06/21 12:00; Library Control - Person that did the Last Update Schematic: Dalarme
pins: 1, 2

## RC0603FR-0720KL
designator R?
RES SMD 20 K OHM 1% 1/10W 0603; Manufacturer: Yageo; Part Number: RC0603FR-0720KL; Value: 20 kOhms; Temperature Coefficient: 100 PPM / C; Voltage Rating: 75 V; Supplier 1: Mouser; Category: Thick Film Resistors; Price: 1 = 0.1; 10 = 0.018; 100 = 0.007; 1000 = 0.004 (USD); Package / Case: 0603; Operating Temperature: -55 C/ +155 C; Tolerance: 1 %; Power Rating: 1/10 W; Mouser Link: https://br.mouser.com/ProductDetail/Yageo/RC0603FR-0720KL?qs=sGAEpiMZZMvdGkrng054t8Tx25L%252BvTaRAnHrGs2dkHE%3D; Library Ref: Resistores; Datasheet: https://br.mouser.com/datasheet/2/447/Yageo_03_18_2021_PYu_RC_Group_51_RoHS_L_11-2199992.pdf; Resistor Type: Thick Film; Size / Dimension: 1.6/0.8 (mm); Supplier Part Number 1: 603-RC0603FR-0720KL; ComponentLink1URL: https://datasheet.ciiva.com/11808/0900766b80f96399-11808275.pdf?src-supplier=RSComponents; ComponentLink1Description: https://datasheet.ciiva.com/11808/0900766b80f96399-11808275.pdf?src-supplier=RSComponents; ComponentLink2URL: https://datasheet.ciiva.com/2453/pyu-r-int-thick-7-2453910.pdf?src-supplier=Digi-Key; ComponentLink2Description: https://datasheet.ciiva.com/2453/pyu-r-int-thick-7-2453910.pdf?src-supplier=Digi-Key; ComponentLink3URL: https://datasheet.ciiva.com/2453/pyu-r-int-thick-7-2453911.pdf?src-supplier=Digi-Key; ComponentLink3Description: https://datasheet.ciiva.com/2453/pyu-r-int-thick-7-2453911.pdf?src-supplier=Digi-Key; ComponentLink4URL: https://datasheet.ciiva.com/2453/pyu-r-int-thick-7-2453912.pdf?src-supplier=Digi-Key; ComponentLink4Description: https://datasheet.ciiva.com/2453/pyu-r-int-thick-7-2453912.pdf?src-supplier=Digi-Key; ComponentLink5URL: https://datasheet.ciiva.com/22747/443971-22747525.pdf?src-supplier=Element14; ComponentLink5Description: https://datasheet.ciiva.com/22747/443971-22747525.pdf?src-supplier=Element14
pins: 1, 2

## RC0603FR-0756KL
designator R?
RES SMD 56K OHM 1% 1/10W 0603; Manufacturer: Yageo; Part Number: RC0603FR-0756KL; Value: 56 kOhms; Temperature Coefficient: 100 PPM / C; Voltage Rating: 75 V; Supplier 1: Mouser; Category: Thick Film Resistors - SMD; Price: 1 = 0.1; 10 = 0.023; 100 = 0.009; 1000 = 0.005 (USD); Package / Case: 0603; Operating Temperature: - 55 C/ + 155 C; Tolerance: 1 %; Power Rating: 1/10 W; Mouser Link: https://br.mouser.com/ProductDetail/Yageo/RC0603FR-0756KL/?qs=gt6vzsuosg2TemPyt%2FVaqg%3D%3D; Library Ref: Resistores; Datasheet: https://br.mouser.com/datasheet/2/447/Yageo_03_18_2021_PYu_RC_Group_51_RoHS_L_11-2199992.pdf; Resistor Type: Fixo; Size / Dimension: 1.6/0.8 (mm); Supplier Part Number 1: 603-RC0603FR-0756KL
pins: 1, 2

## RC0603FR-1324R9L
designator R?, comment 24.9R
RES SMD 24.9 OHM 1% 1/10W 0603; Manufacturer: Yageo; Part Number: RC0603FR-1324R9L; Temperature Coefficient: 100 PPM / C; Power Rating: 100 mW (1/10 W); Voltage Rating: 75 V; Library Control - Checked Footprint: No; Library Control - Person that did the Last Update Footprint: Dalarme; Supplier 1: Mouser; Category: Thick Film Resistors - SMD; Price: 1=0,10, 10=0,018, 100=0,006 (USD); Package / Case: 0603 (1608 Metric); Operating Temperature: - 55ºC ~ 155ºC; Value: 24.9R; Tolerance: 1 %; Mouser Link: https://br.mouser.com/ProductDetail/Yageo/RC0603FR-1324R9L?qs=%2Fha2pyFaduiUxY9aBc7vYq52gu2iPPwwy7w8XSPc0OESwaoMfPt58VFfWLNv%252BiGr; Library Ref: Resistor; Datasheet: https://br.mouser.com/datasheet/2/447/Yageo_03_18_2021_PYu_RC_Group_51_RoHS_L_11-2199992.pdf; Resistor Type: Thick Film Resistors; Size / Dimension: 1.6 mm L x  0.8 mm W x  0.45 mm H; Supplier Part Number 1: 603-RC0603FR-1324R9L; Library Control - Checked Schematic: No; Library Control - Last Update: 10/06/21 12:00; Library Control - Person that did the Last Update Schematic: Dalarme
pins: 1, 2

## RC0603FR-07220RL
designator R?
RES SMD 220 OHM 1% 1/10W 0603; Manufacturer: Yageo; Part Number: RC0603FR-07220RL; Value: 220 Ohms; Temperature Coefficient: 100 PPM / C; Voltage Rating: 75 V; Supplier 1: Mouser; Category: Thick Film Resistors - SMD; Price: 1 = 0.1; 10 = 0.018; 100 = 0.007; 1000 = 0.004 (USD); Package / Case: 0603; Operating Temperature: - 55 C/ + 155 C; Tolerance: 1 %; Power Rating: 1/10 W; Mouser Link: https://br.mouser.com/ProductDetail/Yageo/RC0603FR-07220RL/?qs=VU8sRB4EgwA1IyQ0vhXEEw%3D%3D; Library Ref: Resistores; Datasheet: https://br.mouser.com/datasheet/2/447/Yageo_03_18_2021_PYu_RC_Group_51_RoHS_L_11-2199992.pdf; Resistor Type: Fixo; Size / Dimension: 1.6/0.8 (mm); Supplier Part Number 1: 603-RC0603FR-07220RL
pins: 1, 2

## RC0603FR-10100RL
designator R?
RES SMD 100 OHM 1% 1/10W 0603; Manufacturer: Yageo; Part Number: RC0603FR-10100RL; Value: 100 Ohms; Temperature Coefficient: 100 PPM / C; Voltage Rating: 75 V; Supplier 1: Mouser; Category: Thick Film Resistors - SMD; Price: 1 = 0.1; 10 = 0.018; 100 = 0.006; 1000 = 0.005 (USD); Package / Case: 0603; Operating Temperature: - 55 C/ + 155 C; Tolerance: 1 %; Power Rating: 1/10W; Mouser Link: https://br.mouser.com/ProductDetail/Yageo/RC0603FR-10100RL/?qs=EiqXWrxQq62RG9T9SdQg0g==; Library Ref: Resistores; Datasheet: https://br.mouser.com/datasheet/2/447/Yageo_03_18_2021_PYu_RC_Group_51_RoHS_L_11-2199992.pdf; Resistor Type: Fixo; Size / Dimension: 1.6/0.8 (mm); Supplier Part Number 1: 603-RC0603FR-10100RL
pins: 1, 2

## RC0603JR-138K2L
designator R?
RES SMD 8.2K OHM 5% 1/10W 0603; Manufacturer: Yageo; Part Number: RC0603JR-138K2L; Value: 8.2 kOhms; Temperature Coefficient: 100 PPM / C; Voltage Rating: 75 V; Supplier 1: Mouser; Category: Thick Film Resistors - SMD; Price: 1 = 0.1; 10 = 0.015; 100 = 0.005 (USD); Package / Case: 0603; Operating Temperature: - 55 C/ + 125 C; Tolerance: 5 %; Power Rating: 1/10 W; Mouser Link: https://br.mouser.com/ProductDetail/Yageo/RC0603JR-138K2L?qs=rShlJ6XU4qktKJ57BXDZQg%3D%3D; Library Ref: Resistores; Datasheet: https://br.mouser.com/datasheet/2/447/Yageo_03_18_2021_PYu_RC_Group_51_RoHS_L_11-2199992.pdf; Resistor Type: Fixo; Size / Dimension: 1.6/0.8 (mm); Supplier Part Number 1: 603-RC0603JR-138K2L
pins: 1, 2

## RC0603JR-0710KL
designator R?, comment 10kR
RES SMD 10K OHM 5% 1/10W 0603; Manufacturer: Yageo; Part Number: RC0603JR-0710KL; Temperature Coefficient: 100 PPM / C; Power Rating: 100 mW (1/10 W); Voltage Rating: 75 V; Library Control - Checked Footprint: No; Library Control - Person that did the Last Update Footprint: Dalarme; Supplier 1: Mouser; Category: Thick Film Resistors - SMD; Price: 1=0,10, 10=0,015, 100=0,005 (USD); Package / Case: 0603 (1608 Metric); Operating Temperature: - 55ºC ~ 155ºC; Value: 10kR; Tolerance: 5 %; Mouser Link: https://br.mouser.com/ProductDetail/Yageo/RC0603JR-0710KL?qs=ksOUTF%2FWcd8D6T22BJkQ7g%3D%3D; Library Ref: Resistor; Datasheet: https://br.mouser.com/datasheet/2/447/Yageo_03_18_2021_PYu_RC_Group_51_RoHS_L_11-2199992.pdf; Resistor Type: Thick Film Resistors SMD; Size / Dimension: 1.6 mm L x  0.8 mm W x  0.45 mm H; Supplier Part Number 1: 603-RC0603JR-0710KL; Library Control - Checked Schematic: No; Library Control - Last Update: 10/06/21 12:00; Library Control - Person that did the Last Update Schematic: Dalarme
pins: 1, 2